# Altium schematic symbol library DMN3067LW-7.SchLib: 1 symbol
Pins are listed as number, name and electrical type; pins without a type are passive.

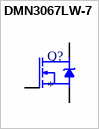
[diagram p0: symbol DMN3067LW-7]

## DMN3067LW-7
designator Q?
N-Channel 30 V 2.6A (Ta) 500mW (Ta) Surface Mount SOT-323; MF: Diodes Inc.; MP: DMN3067LW-7; SnapEDA_Link: https://www.snapeda.com/parts/DMN3067LW-7/Diodes+Inc./view-part/?ref=snap; Package: SOT-323 Diodes Inc.; Value: *; Check_prices: https://www.snapeda.com/parts/DMN3067LW-7/Diodes+Inc./view-part/?ref=eda
footprint SOT323
pins: 1 G (io), 2 S (io), 3 D (io)